# Altium footprint library Passive.PcbLib: 1 footprints
Each footprint in its own frame and in the unit in brackets; x right, y up, seen from the top. Pads: shape width x height; smd on the part's side, far side on the other; paste and mask are expansions set on the pad; w line width, h text height; cw(c..) or ccw(c..) is an arc to the next point about the centre after c.
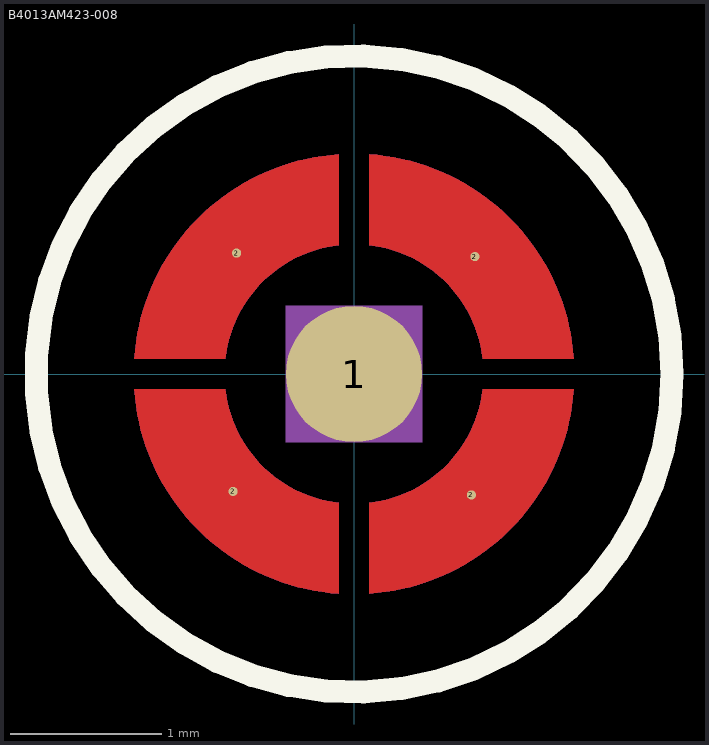
[diagram p0: the footprint, top view; thin cyan lines are the x and y axes]

## B4013AM423-008 [mm] "B4013AM423-008 MIC-SMD_BD4.0_B4013AM423-008"
height 4090.778
pads (5):
  round 0.9 smd mask+0.05: 1(0,0)
  round 0.06 smd: 2(-0.798,-0.775) 2(-0.775,0.798) 2(0.775,-0.798) 2(0.798,0.775)
Top Layer:
  region: 0.1,1.45 0.155,1.445 0.209,1.439 0.263,1.43 0.317,1.419 0.37,1.406 0.423,1.391 0.475,1.374 0.527,1.356 0.577,1.335 0.627,1.312 0.676,1.288 0.724,1.261 0.772,1.233 0.817,1.203 0.862,1.171 0.906,1.138 0.948,1.103 0.989,1.067 1.028,1.029 1.067,0.989 1.103,0.948 1.138,0.906 1.171,0.862 1.203,0.818 1.233,0.772 1.261,0.725 1.287,0.677 1.312,0.628 1.335,0.577 1.355,0.527 1.374,0.475 1.391,0.423 1.406,0.37 1.419,0.317 1.43,0.263 1.439,0.209 1.445,0.155 1.45,0.1 0.85,0.1 0.844,0.142 0.836,0.184 0.826,0.225 0.814,0.266 0.8,0.306 0.784,0.345 0.767,0.383 0.747,0.421 0.725,0.457 0.702,0.493 0.676,0.527 0.65,0.56 0.621,0.591 0.591,0.621 0.56,0.65 0.527,0.677 0.493,0.702 0.457,0.725 0.421,0.747 0.383,0.767 0.345,0.785 0.306,0.801 0.266,0.814 0.225,0.827 0.184,0.836 0.142,0.844 0.1,0.85
  region: -1.45,0.1 -1.445,0.155 -1.439,0.209 -1.43,0.263 -1.419,0.317 -1.406,0.37 -1.391,0.423 -1.374,0.475 -1.355,0.527 -1.335,0.577 -1.312,0.627 -1.287,0.676 -1.261,0.725 -1.233,0.772 -1.203,0.818 -1.171,0.862 -1.138,0.906 -1.103,0.948 -1.067,0.989 -1.029,1.029 -0.989,1.067 -0.948,1.103 -0.906,1.138 -0.862,1.171 -0.818,1.203 -0.772,1.233 -0.725,1.261 -0.676,1.287 -0.627,1.312 -0.577,1.335 -0.527,1.355 -0.475,1.374 -0.423,1.391 -0.37,1.406 -0.317,1.419 -0.263,1.43 -0.209,1.439 -0.155,1.445 -0.1,1.45 -0.1,0.85 -0.142,0.844 -0.184,0.836 -0.225,0.826 -0.266,0.814 -0.306,0.8 -0.345,0.784 -0.383,0.767 -0.421,0.747 -0.457,0.725 -0.493,0.702 -0.527,0.676 -0.56,0.65 -0.591,0.621 -0.621,0.591 -0.65,0.56 -0.676,0.527 -0.702,0.493 -0.725,0.457 -0.747,0.421 -0.767,0.383 -0.784,0.345 -0.8,0.306 -0.814,0.266 -0.826,0.225 -0.836,0.184 -0.844,0.142 -0.85,0.1
  region: -0.1,-1.45 -0.155,-1.445 -0.209,-1.439 -0.263,-1.43 -0.317,-1.419 -0.37,-1.406 -0.423,-1.391 -0.475,-1.374 -0.527,-1.356 -0.577,-1.335 -0.627,-1.312 -0.676,-1.288 -0.724,-1.261 -0.772,-1.233 -0.817,-1.203 -0.862,-1.171 -0.906,-1.138 -0.948,-1.103 -0.989,-1.067 -1.028,-1.029 -1.067,-0.989 -1.103,-0.948 -1.138,-0.906 -1.171,-0.862 -1.203,-0.818 -1.233,-0.772 -1.261,-0.725 -1.287,-0.677 -1.312,-0.628 -1.335,-0.577 -1.355,-0.527 -1.374,-0.475 -1.391,-0.423 -1.406,-0.37 -1.419,-0.317 -1.43,-0.263 -1.439,-0.209 -1.445,-0.155 -1.45,-0.1 -0.85,-0.1 -0.844,-0.142 -0.836,-0.184 -0.826,-0.225 -0.814,-0.266 -0.8,-0.306 -0.784,-0.345 -0.767,-0.383 -0.747,-0.421 -0.725,-0.457 -0.702,-0.493 -0.676,-0.527 -0.65,-0.56 -0.621,-0.591 -0.591,-0.621 -0.56,-0.65 -0.527,-0.677 -0.493,-0.702 -0.457,-0.725 -0.421,-0.747 -0.383,-0.767 -0.345,-0.785 -0.306,-0.801 -0.266,-0.814 -0.225,-0.827 -0.184,-0.836 -0.142,-0.844 -0.1,-0.85
  region: 1.45,-0.1 1.445,-0.155 1.439,-0.209 1.43,-0.263 1.419,-0.317 1.406,-0.37 1.391,-0.423 1.374,-0.475 1.355,-0.527 1.335,-0.577 1.312,-0.627 1.287,-0.676 1.261,-0.725 1.233,-0.772 1.203,-0.818 1.171,-0.862 1.138,-0.906 1.103,-0.948 1.067,-0.989 1.029,-1.029 0.989,-1.067 0.948,-1.103 0.906,-1.138 0.862,-1.171 0.818,-1.203 0.772,-1.233 0.725,-1.261 0.676,-1.287 0.627,-1.312 0.577,-1.335 0.527,-1.355 0.475,-1.374 0.423,-1.391 0.37,-1.406 0.317,-1.419 0.263,-1.43 0.209,-1.439 0.155,-1.445 0.1,-1.45 0.1,-0.85 0.142,-0.844 0.184,-0.836 0.225,-0.826 0.266,-0.814 0.306,-0.8 0.345,-0.784 0.383,-0.767 0.421,-0.747 0.457,-0.725 0.493,-0.702 0.527,-0.676 0.56,-0.65 0.591,-0.621 0.621,-0.591 0.65,-0.56 0.676,-0.527 0.702,-0.493 0.725,-0.457 0.747,-0.421 0.767,-0.383 0.784,-0.345 0.8,-0.306 0.814,-0.266 0.826,-0.225 0.836,-0.184 0.844,-0.142 0.85,-0.1
Top Overlay:
  circle w0.152: c0,0 r2.1
Top Solder:
  drawing of 4 lines, arcs and shapes, not listed
Mechanical 9:
  drawing of 5 lines, arcs and shapes, not listed
3D body "MIC-SMD_BD4.0-H1.5_B4013AM423-093.step": height 1.5, standoff 0, extent -2.1,-2.1 2.1,2.1